# Altium footprint library BELFUSE_FC-203-22.PcbLib: 1 footprints
Each footprint in its own frame and in the unit in brackets; x right, y up, seen from the top. Pads: shape width x height; smd on the part's side, far side on the other; paste and mask are expansions set on the pad; w line width, h text height; cw(c..) or ccw(c..) is an arc to the next point about the centre after c.
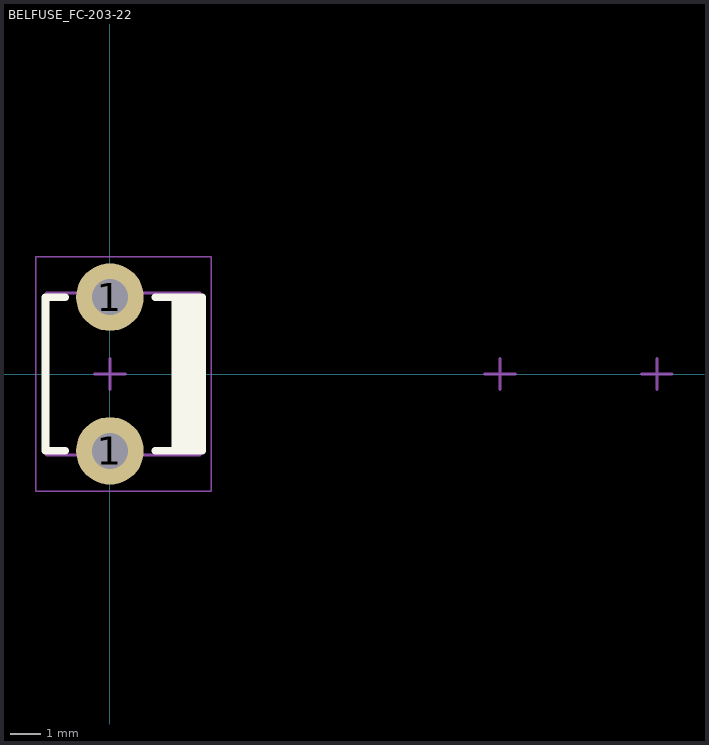
[diagram p0: the footprint, top view; thin cyan lines are the x and y axes]

## BELFUSE_FC-203-22 [mm] "BELFUSE_FC-203-22"
height 7.061
pads (2):
  round 2.2 hole 1.17 mask+0.05: 1(0,-2.5) 1(0,2.5)
Top Overlay:
  rectangle: 2,-2.5 3,2.5
  lines w0.25: -1.463,-2.5 -2.098,-2.5 -2.098,2.5 -1.463,2.5 ; 1.476,-2.5 3,-2.5 3,0 3,2.5 1.476,2.5
Mechanical 13:
  lines w0.1: -2.07,-2.642 -2.07,2.642 2.934,2.642 2.934,-2.642 -2.07,-2.642
Mechanical 15:
  lines w0.05: -2.413,-3.81 3.302,-3.81 3.302,3.81 -2.413,3.81 -2.413,-3.81
  lines w0.1: -0.5,0 0.5,0 ; 0,-0.5 0,0.5 ; 12.2,0 12.7,0 ; 12.7,-0.5 12.7,0 ; 12.7,0.5 12.7,0 ; 13.2,0 12.7,0 ; 17.3,0 17.8,0 ; 17.8,-0.5 17.8,0 ; 17.8,0.5 17.8,0 ; 18.3,0 17.8,0
  text "20mm length" at 14.313,0.257 h0.3
  text "15mm length" at 9.213,0.257 h0.3
3D body: height 7.06, standoff 0, extent -2.07,-2.642 2.934,2.642